# Altium schematic symbol library BSC030P03NS3 G.Schlib: 1 symbol
Pins are listed as number, name and electrical type; pins without a type are passive.

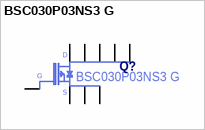
[diagram p0: symbol BSC030P03NS3 G]

## BSC030P03NS3 G
designator Q?
BSC030P03NS3 G; Manufacturer Part Number: BSC030P03NS3 G
pins: 1 S, 2 S, 3 S, 4 G, 5 D, 6 D, 7 D, 8 D, 9 D